# Altium schematic symbol library ADAR7251WBCSZ.SchLib: 1 symbol
Pins are listed as number, name and electrical type; pins without a type are passive.

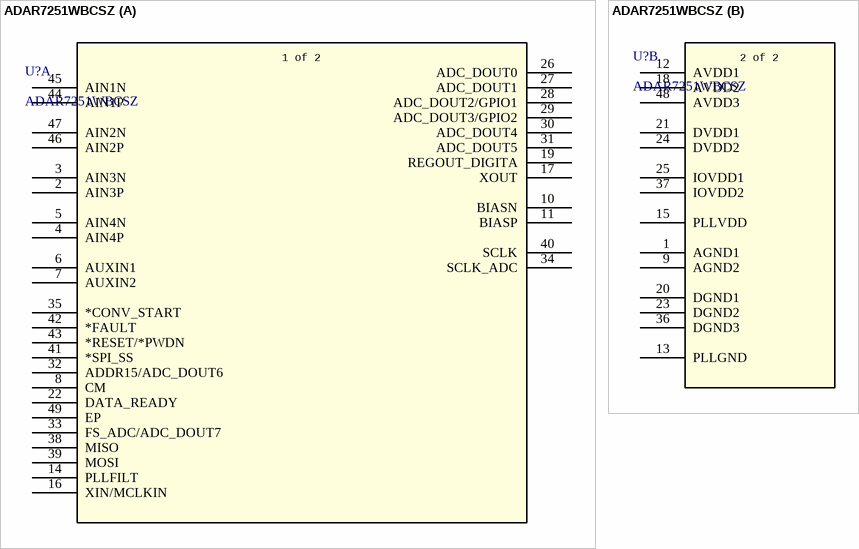
[diagram p0: symbol ADAR7251WBCSZ]

## ADAR7251WBCSZ
designator U?
4-Channel, 16-Bit, Continuous Time Data Acquisition ADC; Manufacturer_Name: Analog Devices Inc; Copyright: Copyright (C) 2025 Ultra Librarian. All rights reserved.; Manufacturer_Part_Number: ADAR7251WBCSZ; Datasheet: https://www.analog.com/media/en/technical-documentation/data-sheets/ADAR7251.pdf; RefDes: RefDes; Type: Type
footprint CS_48_1_ADI
part A pins: 2 AIN3P, 3 AIN3N, 4 AIN4P, 5 AIN4N, 6 AUXIN1, 7 AUXIN2, 8 CM, 10 BIASN, 11 BIASP, 14 PLLFILT, 16 XIN/MCLKIN, 17 XOUT, 19 REGOUT_DIGITA, 22 DATA_READY, 26 ADC_DOUT0, 27 ADC_DOUT1, 28 ADC_DOUT2/GPIO1, 29 ADC_DOUT3/GPIO2, 30 ADC_DOUT4, 31 ADC_DOUT5, 32 ADDR15/ADC_DOUT6, 33 FS_ADC/ADC_DOUT7, 34 SCLK_ADC, 35 *CONV_START, 38 MISO, 39 MOSI, 40 SCLK, 41 *SPI_SS, 42 *FAULT, 43 *RESET/*PWDN, 44 AIN1P, 45 AIN1N, 46 AIN2P, 47 AIN2N, 49 EP
part B pins: 1 AGND1, 9 AGND2, 12 AVDD1, 13 PLLGND, 15 PLLVDD, 18 AVDD2, 20 DGND1, 21 DVDD1, 23 DGND2, 24 DVDD2, 25 IOVDD1, 36 DGND3, 37 IOVDD2, 48 AVDD3
part A text: 1 of 2
part B text: 2 of 2